# EAGLE library part RFM69HW-V1.3 (library comp_wirelessnode)
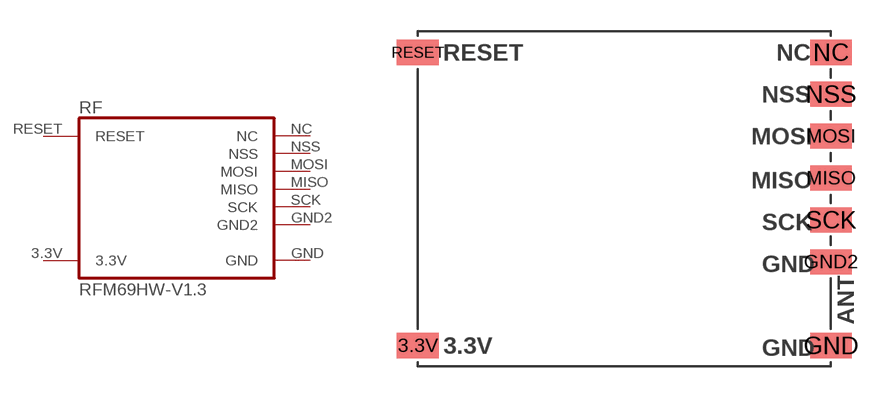
[diagram p8: symbol with the pads of RFM69HW-V1.3-SMD; footprint RFM69HW-V1.3-SMD]

Designator prefix RF

## RFM69HW-V1.3  [RFM69HW-V1.3-SMD]
3.3V  3.3V  pwr
GND  GND  in
GND2  GND2  out
MISO  MISO  out
MOSI  MOSI  out
NC  NC  out
NSS  NSS  out
RESET  RESET  pwr
SCK  SCK  out

## Footprint RFM69HW-V1.3-SMD (pad centres in mm)
smd 2 x 1.2: 3.3V 0,1; GND 19.7,1; GND2 19.7,5; MISO 19.7,9; MOSI 19.7,11; NC 19.7,15; NSS 19.7,13; RESET 0,15; SCK 19.7,7